# Altium integrated library Linear Technology Power Management Switching Regulator LT1074-LT8705.IntLib: 2252 symbols (part 55 of 148)
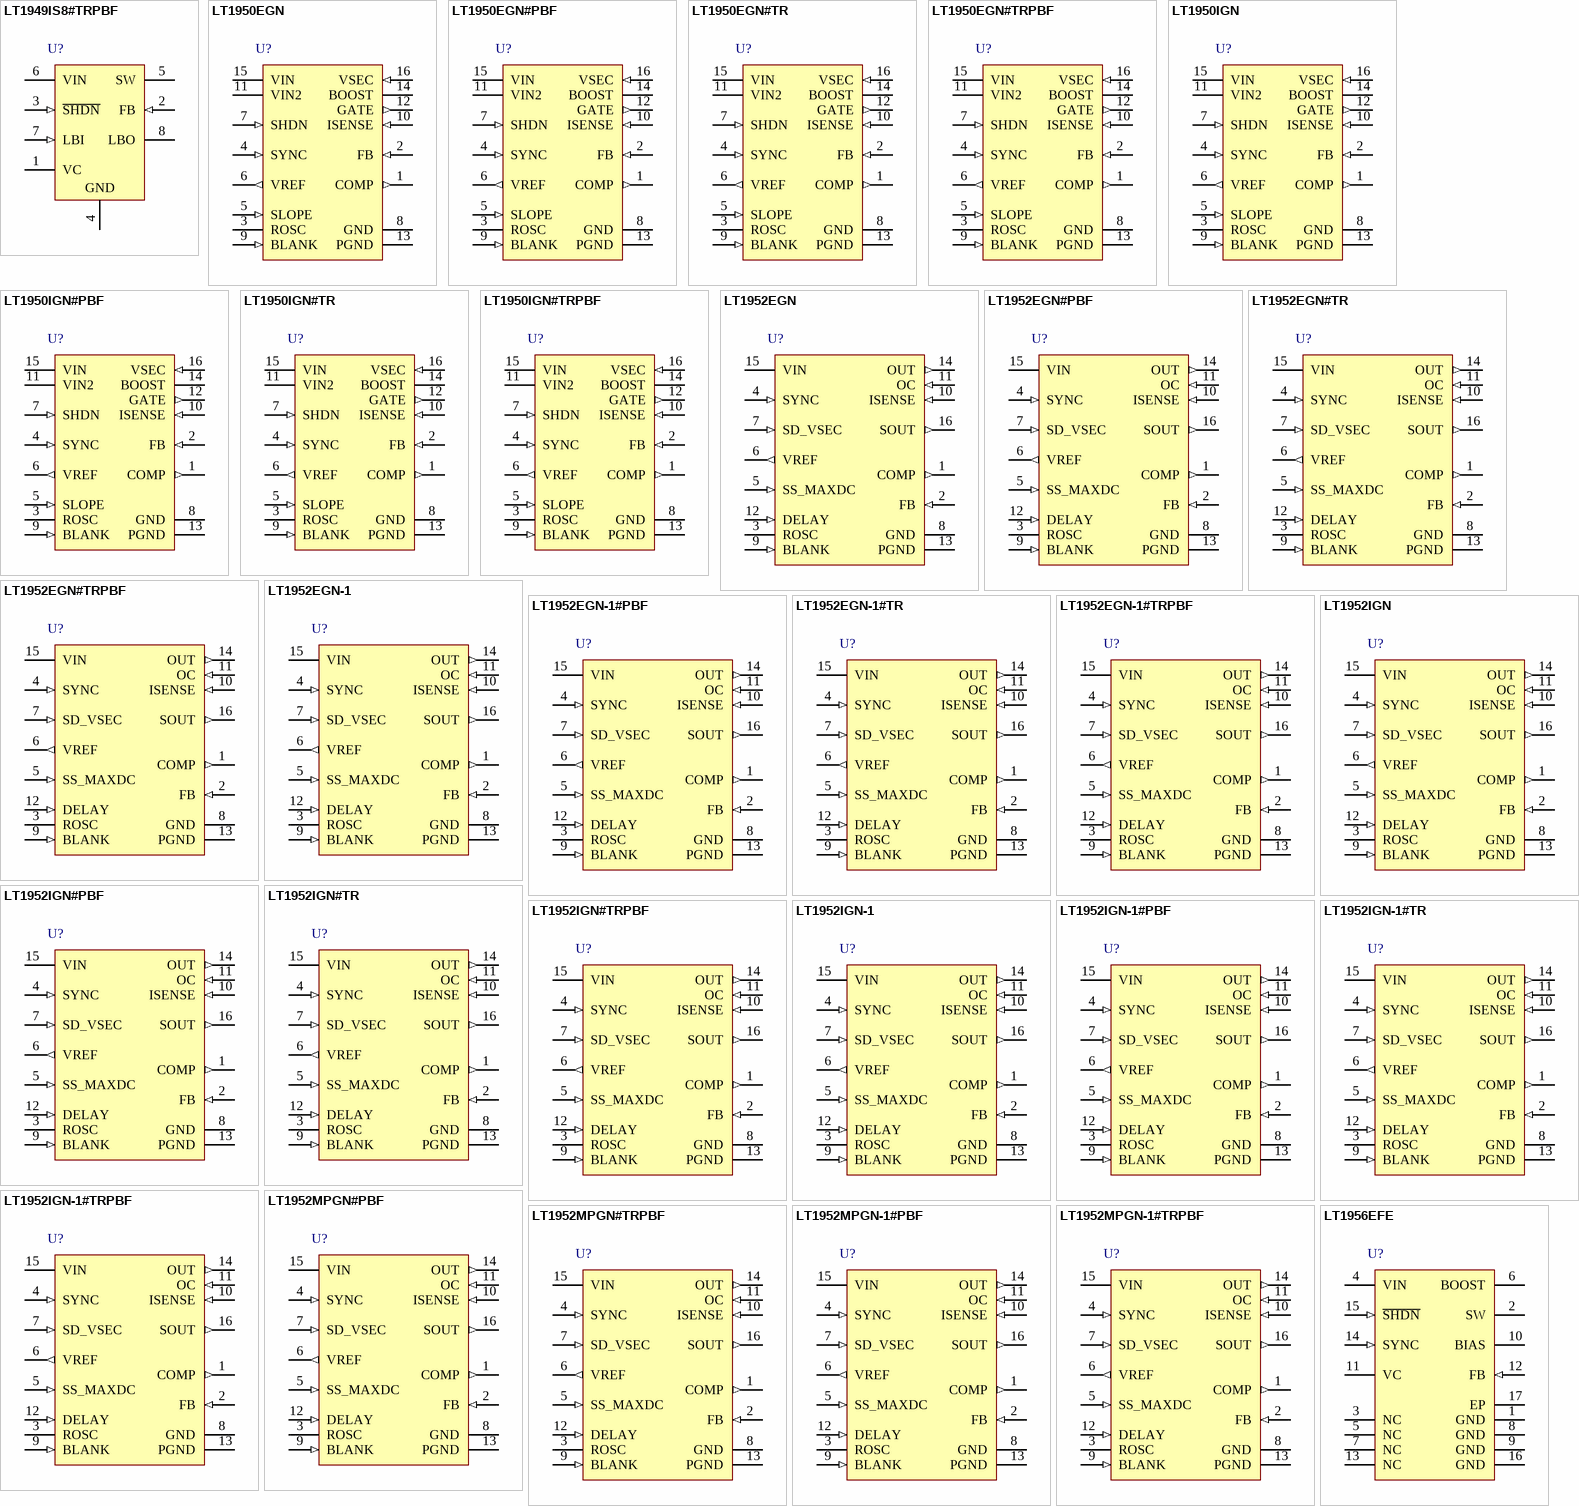
[diagram p125: symbols LT1949IS8#TRPBF to LT1956EFE]

## LT1950EGN#TRPBF
designator U?
Boost, Flyback and Forward Controller Transformer and MOSFET Protection, 16-pin SOP (GN-16), -40 to 125 degC, Pb-Free, Tape and Reel; Manufacturer: Linear Technology; PartNumber: LT1950EGN#TRPBF; Frequency Sync Range: 100kHz - 500kHz; Number of Outputs: 1; DatasheetVersion: Rev. A; PackageVersion: Rev. B, 03/2012; PackageReference: GN-16; PackageDescription: 16-Pin Plastic SSOP, Body 4.9 x 3.9 mm, Pitch 0.635 mm; Supplier 1: Digi-Key; Supplier Part Number 1: LT1950EGN#TRPBF-ND; Packing: Tape and Reel; RoHS: TRUE; Mounting Technology: Surface Mount; ComponentLink1Description: Manufacturer URL; ComponentLink1URL: http://www.linear.com/; ComponentLink2Description: Datasheet; ComponentLink2URL: http://cds.linear.com/docs/en/datasheet/1950fa.pdf; ComponentLink3Description: Package Specification; ComponentLink3URL: http://cds.linear.com/docs/en/packaging/05081641_B_GN16.pdf
footprint LT-GN-16_N (SOP, 16-Leads, Body 5x4mm, Pitch 0.635mm, IPC Medium Density)
footprint LT-GN-16_L (SOP, 16-Leads, Body 5x4mm, Pitch 0.635mm, IPC High Density)
footprint LT-GN-16_M (SOP, 16-Leads, Body 5x4mm, Pitch 0.635mm, IPC Low Density)
pins: 1 COMP (out) "The COMP pin is the output of the error amplifier. The error amplifier is a true op amp which allows the use of an RC network to be connected between the Comp and FB pins to compensate the feedback loop for optimum transient (See Datasheet)", 2 FB (in) "The FB pin is the inverting input to the error amplifier. The output voltage is set with a resistor divider. The error amplifier adjusts the peak switch current to maintain the FB pin voltage at the value of the internal (See Datasheet)", 3 ROSC "A resistor from the ROSC pin to ground programs the operating frequency of the LT1950. Operating frequency range is 100kHz to 500kHz. Nominal voltage on the ROSC pin is 1V.", 4 SYNC (in) "The SYNC pin is used to synchronize the internal oscillator to an external clock signal. The pin is directly logic compatible and can be driven with any signal with a duty cycle of 10% to 90%. If the SYNC function is not (See Datasheet)", 5 SLOPE (in) "The SLOPE pin is used to adjust the amount of slope compensation. Leaving the pin open circuit results in a default level of slope compensation. The amount of slope compensation can be adjusted above this default level by (See Datasheet)", 6 VREF (out) "The VREF pin is the output of an internal 2.5V reference. This pin is capable of sourcing up to 2.5mA for external use. It is recommended that the VREF pin is bypassed to ground with a 0.1uF ceramic capacitor.", 7 SHDN (in) "The SHDN pin is used to put the device into a low power shutdown state. In shutdown the VIN supply current drops to 5uA. The SHDN pin has an accurate threshold of 1.32V which can be used to program an undervoltage lockout (See Datasheet)", 8 GND (power) "The GND pin is the analog ground for the internal circuitry of the LT1950. Sensitive circuitry such as the feedback divider, frequency setting resistor, reference bypass capacitor should be tied directly to this pin. See the (See Datasheet)", 9 BLANK (in) "The BLANK pin is used to adjust the leading edge blanking period of the current sense amplifier during FET turn-on. Shorting the BLANK pin to ground provides a default blanking period of approximately 110ns. A resistor from (See Datasheet)", 10 ISENSE (in) "The ISENSE pin is the current sense input for the control loop. Connect this pin to the sense resistor in the source of the external power MOSFET.", 11 VIN2 (power) "The VIN2 pin is the supply pin for the MOSFET gate drive circuit. Power can be supplied to this pin by an external supply such as VIN, and must exceed 8V (the undervoltage lockout threshold for the gate driver supply). For (See Datasheet)", 12 GATE (out) "The GATE pin is the output of a high current gate drive circuit used to drive an external MOSFET. The output is actively clamped to a max voltage of 13V if VIN2 is supplied by a high voltage.", 13 PGND (power) "This is the ground connection for the high current gate driver stage. See the Applications Information section for recommendations on ground connections.", 14 BOOST "The BOOST pin is the NPN collector output of the internal boost converter which can be used to generate an 11V supply for the MOSFET gate driver circuit. The boost converter runs with a fixed off-time of 0.5us and a current (See Datasheet)", 15 VIN (power) "The VIN pin is the main supply pin for the LT1950. This pin must be closely bypassed to ground. If VIN2 is generated using the BOOST pin then the LT1950 will be fully functional, internal VREF will be active and the gate (See Datasheet)", 16 VSEC (in) "The VSEC pin is used to program the maximum duty cycle of the gate driver circuit. The maximum duty cycle will be equal to (105/VSEC)% for VSEC between 1.4V and 2.8V. This is a useful function to limit the flyback voltage in (See Datasheet)"

## LT1950IGN
designator U?
Boost, Flyback and Forward Controller Transformer and MOSFET Protection, 16-pin SOP (GN-16), -40 to 125 degC; Manufacturer: Linear Technology; PartNumber: LT1950IGN; Frequency Sync Range: 100kHz - 500kHz; Number of Outputs: 1; DatasheetVersion: Rev. A; PackageVersion: Rev. B, 03/2012; PackageReference: GN-16; PackageDescription: 16-Pin Plastic SSOP, Body 4.9 x 3.9 mm, Pitch 0.635 mm; Supplier 1: Digi-Key; Supplier Part Number 1: LT1950IGN-ND; Supplier 2: Newark; Supplier Part Number 2: 57M7305; RoHS: FALSE; Mounting Technology: Surface Mount; ComponentLink1Description: Manufacturer URL; ComponentLink1URL: http://www.linear.com/; ComponentLink2Description: Datasheet; ComponentLink2URL: http://cds.linear.com/docs/en/datasheet/1950fa.pdf; ComponentLink3Description: Package Specification; ComponentLink3URL: http://cds.linear.com/docs/en/packaging/05081641_B_GN16.pdf
footprint LT-GN-16_N (SOP, 16-Leads, Body 5x4mm, Pitch 0.635mm, IPC Medium Density)
footprint LT-GN-16_L (SOP, 16-Leads, Body 5x4mm, Pitch 0.635mm, IPC High Density)
footprint LT-GN-16_M (SOP, 16-Leads, Body 5x4mm, Pitch 0.635mm, IPC Low Density)
pins: 1 COMP (out) "The COMP pin is the output of the error amplifier. The error amplifier is a true op amp which allows the use of an RC network to be connected between the Comp and FB pins to compensate the feedback loop for optimum transient (See Datasheet)", 2 FB (in) "The FB pin is the inverting input to the error amplifier. The output voltage is set with a resistor divider. The error amplifier adjusts the peak switch current to maintain the FB pin voltage at the value of the internal (See Datasheet)", 3 ROSC "A resistor from the ROSC pin to ground programs the operating frequency of the LT1950. Operating frequency range is 100kHz to 500kHz. Nominal voltage on the ROSC pin is 1V.", 4 SYNC (in) "The SYNC pin is used to synchronize the internal oscillator to an external clock signal. The pin is directly logic compatible and can be driven with any signal with a duty cycle of 10% to 90%. If the SYNC function is not (See Datasheet)", 5 SLOPE (in) "The SLOPE pin is used to adjust the amount of slope compensation. Leaving the pin open circuit results in a default level of slope compensation. The amount of slope compensation can be adjusted above this default level by (See Datasheet)", 6 VREF (out) "The VREF pin is the output of an internal 2.5V reference. This pin is capable of sourcing up to 2.5mA for external use. It is recommended that the VREF pin is bypassed to ground with a 0.1uF ceramic capacitor.", 7 SHDN (in) "The SHDN pin is used to put the device into a low power shutdown state. In shutdown the VIN supply current drops to 5uA. The SHDN pin has an accurate threshold of 1.32V which can be used to program an undervoltage lockout (See Datasheet)", 8 GND (power) "The GND pin is the analog ground for the internal circuitry of the LT1950. Sensitive circuitry such as the feedback divider, frequency setting resistor, reference bypass capacitor should be tied directly to this pin. See the (See Datasheet)", 9 BLANK (in) "The BLANK pin is used to adjust the leading edge blanking period of the current sense amplifier during FET turn-on. Shorting the BLANK pin to ground provides a default blanking period of approximately 110ns. A resistor from (See Datasheet)", 10 ISENSE (in) "The ISENSE pin is the current sense input for the control loop. Connect this pin to the sense resistor in the source of the external power MOSFET.", 11 VIN2 (power) "The VIN2 pin is the supply pin for the MOSFET gate drive circuit. Power can be supplied to this pin by an external supply such as VIN, and must exceed 8V (the undervoltage lockout threshold for the gate driver supply). For (See Datasheet)", 12 GATE (out) "The GATE pin is the output of a high current gate drive circuit used to drive an external MOSFET. The output is actively clamped to a max voltage of 13V if VIN2 is supplied by a high voltage.", 13 PGND (power) "This is the ground connection for the high current gate driver stage. See the Applications Information section for recommendations on ground connections.", 14 BOOST "The BOOST pin is the NPN collector output of the internal boost converter which can be used to generate an 11V supply for the MOSFET gate driver circuit. The boost converter runs with a fixed off-time of 0.5us and a current (See Datasheet)", 15 VIN (power) "The VIN pin is the main supply pin for the LT1950. This pin must be closely bypassed to ground. If VIN2 is generated using the BOOST pin then the LT1950 will be fully functional, internal VREF will be active and the gate (See Datasheet)", 16 VSEC (in) "The VSEC pin is used to program the maximum duty cycle of the gate driver circuit. The maximum duty cycle will be equal to (105/VSEC)% for VSEC between 1.4V and 2.8V. This is a useful function to limit the flyback voltage in (See Datasheet)"

## LT1950IGN#PBF
designator U?
Boost, Flyback and Forward Controller Transformer and MOSFET Protection, 16-pin SOP (GN-16), -40 to 125 degC, Pb-Free; Manufacturer: Linear Technology; PartNumber: LT1950IGN#PBF; Frequency Sync Range: 100kHz - 500kHz; Number of Outputs: 1; DatasheetVersion: Rev. A; PackageVersion: Rev. B, 03/2012; PackageReference: GN-16; PackageDescription: 16-Pin Plastic SSOP, Body 4.9 x 3.9 mm, Pitch 0.635 mm; Supplier 1: Digi-Key; Supplier Part Number 1: LT1950IGN#PBF-ND; Supplier 2: Newark; Supplier Part Number 2: 57M7306; RoHS: TRUE; Mounting Technology: Surface Mount; ComponentLink1Description: Manufacturer URL; ComponentLink1URL: http://www.linear.com/; ComponentLink2Description: Datasheet; ComponentLink2URL: http://cds.linear.com/docs/en/datasheet/1950fa.pdf; ComponentLink3Description: Package Specification; ComponentLink3URL: http://cds.linear.com/docs/en/packaging/05081641_B_GN16.pdf
footprint LT-GN-16_N (SOP, 16-Leads, Body 5x4mm, Pitch 0.635mm, IPC Medium Density)
footprint LT-GN-16_L (SOP, 16-Leads, Body 5x4mm, Pitch 0.635mm, IPC High Density)
footprint LT-GN-16_M (SOP, 16-Leads, Body 5x4mm, Pitch 0.635mm, IPC Low Density)
pins: 1 COMP (out) "The COMP pin is the output of the error amplifier. The error amplifier is a true op amp which allows the use of an RC network to be connected between the Comp and FB pins to compensate the feedback loop for optimum transient (See Datasheet)", 2 FB (in) "The FB pin is the inverting input to the error amplifier. The output voltage is set with a resistor divider. The error amplifier adjusts the peak switch current to maintain the FB pin voltage at the value of the internal (See Datasheet)", 3 ROSC "A resistor from the ROSC pin to ground programs the operating frequency of the LT1950. Operating frequency range is 100kHz to 500kHz. Nominal voltage on the ROSC pin is 1V.", 4 SYNC (in) "The SYNC pin is used to synchronize the internal oscillator to an external clock signal. The pin is directly logic compatible and can be driven with any signal with a duty cycle of 10% to 90%. If the SYNC function is not (See Datasheet)", 5 SLOPE (in) "The SLOPE pin is used to adjust the amount of slope compensation. Leaving the pin open circuit results in a default level of slope compensation. The amount of slope compensation can be adjusted above this default level by (See Datasheet)", 6 VREF (out) "The VREF pin is the output of an internal 2.5V reference. This pin is capable of sourcing up to 2.5mA for external use. It is recommended that the VREF pin is bypassed to ground with a 0.1uF ceramic capacitor.", 7 SHDN (in) "The SHDN pin is used to put the device into a low power shutdown state. In shutdown the VIN supply current drops to 5uA. The SHDN pin has an accurate threshold of 1.32V which can be used to program an undervoltage lockout (See Datasheet)", 8 GND (power) "The GND pin is the analog ground for the internal circuitry of the LT1950. Sensitive circuitry such as the feedback divider, frequency setting resistor, reference bypass capacitor should be tied directly to this pin. See the (See Datasheet)", 9 BLANK (in) "The BLANK pin is used to adjust the leading edge blanking period of the current sense amplifier during FET turn-on. Shorting the BLANK pin to ground provides a default blanking period of approximately 110ns. A resistor from (See Datasheet)", 10 ISENSE (in) "The ISENSE pin is the current sense input for the control loop. Connect this pin to the sense resistor in the source of the external power MOSFET.", 11 VIN2 (power) "The VIN2 pin is the supply pin for the MOSFET gate drive circuit. Power can be supplied to this pin by an external supply such as VIN, and must exceed 8V (the undervoltage lockout threshold for the gate driver supply). For (See Datasheet)", 12 GATE (out) "The GATE pin is the output of a high current gate drive circuit used to drive an external MOSFET. The output is actively clamped to a max voltage of 13V if VIN2 is supplied by a high voltage.", 13 PGND (power) "This is the ground connection for the high current gate driver stage. See the Applications Information section for recommendations on ground connections.", 14 BOOST "The BOOST pin is the NPN collector output of the internal boost converter which can be used to generate an 11V supply for the MOSFET gate driver circuit. The boost converter runs with a fixed off-time of 0.5us and a current (See Datasheet)", 15 VIN (power) "The VIN pin is the main supply pin for the LT1950. This pin must be closely bypassed to ground. If VIN2 is generated using the BOOST pin then the LT1950 will be fully functional, internal VREF will be active and the gate (See Datasheet)", 16 VSEC (in) "The VSEC pin is used to program the maximum duty cycle of the gate driver circuit. The maximum duty cycle will be equal to (105/VSEC)% for VSEC between 1.4V and 2.8V. This is a useful function to limit the flyback voltage in (See Datasheet)"

## LT1950IGN#TR
designator U?
Boost, Flyback and Forward Controller Transformer and MOSFET Protection, 16-pin SOP (GN-16), -40 to 125 degC, Tape and Reel; Manufacturer: Linear Technology; PartNumber: LT1950IGN#TR; Frequency Sync Range: 100kHz - 500kHz; Number of Outputs: 1; DatasheetVersion: Rev. A; PackageVersion: Rev. B, 03/2012; PackageReference: GN-16; PackageDescription: 16-Pin Plastic SSOP, Body 4.9 x 3.9 mm, Pitch 0.635 mm; Supplier 1: Digi-Key; Supplier Part Number 1: LT1950IGN#TR-ND; Supplier 2: Newark; Supplier Part Number 2: 57M7307; Packing: Tape and Reel; RoHS: FALSE; Mounting Technology: Surface Mount; ComponentLink1Description: Manufacturer URL; ComponentLink1URL: http://www.linear.com/; ComponentLink2Description: Datasheet; ComponentLink2URL: http://cds.linear.com/docs/en/datasheet/1950fa.pdf; ComponentLink3Description: Package Specification; ComponentLink3URL: http://cds.linear.com/docs/en/packaging/05081641_B_GN16.pdf
footprint LT-GN-16_N (SOP, 16-Leads, Body 5x4mm, Pitch 0.635mm, IPC Medium Density)
footprint LT-GN-16_L (SOP, 16-Leads, Body 5x4mm, Pitch 0.635mm, IPC High Density)
footprint LT-GN-16_M (SOP, 16-Leads, Body 5x4mm, Pitch 0.635mm, IPC Low Density)
pins: 1 COMP (out) "The COMP pin is the output of the error amplifier. The error amplifier is a true op amp which allows the use of an RC network to be connected between the Comp and FB pins to compensate the feedback loop for optimum transient (See Datasheet)", 2 FB (in) "The FB pin is the inverting input to the error amplifier. The output voltage is set with a resistor divider. The error amplifier adjusts the peak switch current to maintain the FB pin voltage at the value of the internal (See Datasheet)", 3 ROSC "A resistor from the ROSC pin to ground programs the operating frequency of the LT1950. Operating frequency range is 100kHz to 500kHz. Nominal voltage on the ROSC pin is 1V.", 4 SYNC (in) "The SYNC pin is used to synchronize the internal oscillator to an external clock signal. The pin is directly logic compatible and can be driven with any signal with a duty cycle of 10% to 90%. If the SYNC function is not (See Datasheet)", 5 SLOPE (in) "The SLOPE pin is used to adjust the amount of slope compensation. Leaving the pin open circuit results in a default level of slope compensation. The amount of slope compensation can be adjusted above this default level by (See Datasheet)", 6 VREF (out) "The VREF pin is the output of an internal 2.5V reference. This pin is capable of sourcing up to 2.5mA for external use. It is recommended that the VREF pin is bypassed to ground with a 0.1uF ceramic capacitor.", 7 SHDN (in) "The SHDN pin is used to put the device into a low power shutdown state. In shutdown the VIN supply current drops to 5uA. The SHDN pin has an accurate threshold of 1.32V which can be used to program an undervoltage lockout (See Datasheet)", 8 GND (power) "The GND pin is the analog ground for the internal circuitry of the LT1950. Sensitive circuitry such as the feedback divider, frequency setting resistor, reference bypass capacitor should be tied directly to this pin. See the (See Datasheet)", 9 BLANK (in) "The BLANK pin is used to adjust the leading edge blanking period of the current sense amplifier during FET turn-on. Shorting the BLANK pin to ground provides a default blanking period of approximately 110ns. A resistor from (See Datasheet)", 10 ISENSE (in) "The ISENSE pin is the current sense input for the control loop. Connect this pin to the sense resistor in the source of the external power MOSFET.", 11 VIN2 (power) "The VIN2 pin is the supply pin for the MOSFET gate drive circuit. Power can be supplied to this pin by an external supply such as VIN, and must exceed 8V (the undervoltage lockout threshold for the gate driver supply). For (See Datasheet)", 12 GATE (out) "The GATE pin is the output of a high current gate drive circuit used to drive an external MOSFET. The output is actively clamped to a max voltage of 13V if VIN2 is supplied by a high voltage.", 13 PGND (power) "This is the ground connection for the high current gate driver stage. See the Applications Information section for recommendations on ground connections.", 14 BOOST "The BOOST pin is the NPN collector output of the internal boost converter which can be used to generate an 11V supply for the MOSFET gate driver circuit. The boost converter runs with a fixed off-time of 0.5us and a current (See Datasheet)", 15 VIN (power) "The VIN pin is the main supply pin for the LT1950. This pin must be closely bypassed to ground. If VIN2 is generated using the BOOST pin then the LT1950 will be fully functional, internal VREF will be active and the gate (See Datasheet)", 16 VSEC (in) "The VSEC pin is used to program the maximum duty cycle of the gate driver circuit. The maximum duty cycle will be equal to (105/VSEC)% for VSEC between 1.4V and 2.8V. This is a useful function to limit the flyback voltage in (See Datasheet)"

## LT1950IGN#TRPBF
designator U?
Boost, Flyback and Forward Controller Transformer and MOSFET Protection, 16-pin SOP (GN-16), -40 to 125 degC, Pb-Free, Tape and Reel; Manufacturer: Linear Technology; PartNumber: LT1950IGN#TRPBF; Frequency Sync Range: 100kHz - 500kHz; Number of Outputs: 1; DatasheetVersion: Rev. A; PackageVersion: Rev. B, 03/2012; PackageReference: GN-16; PackageDescription: 16-Pin Plastic SSOP, Body 4.9 x 3.9 mm, Pitch 0.635 mm; Supplier 1: Digi-Key; Supplier Part Number 1: LT1950IGN#TRPBF-ND; Supplier 2: Newark; Supplier Part Number 2: 57M7308; Packing: Tape and Reel; RoHS: TRUE; Mounting Technology: Surface Mount; ComponentLink1Description: Manufacturer URL; ComponentLink1URL: http://www.linear.com/; ComponentLink2Description: Datasheet; ComponentLink2URL: http://cds.linear.com/docs/en/datasheet/1950fa.pdf; ComponentLink3Description: Package Specification; ComponentLink3URL: http://cds.linear.com/docs/en/packaging/05081641_B_GN16.pdf
footprint LT-GN-16_N (SOP, 16-Leads, Body 5x4mm, Pitch 0.635mm, IPC Medium Density)
footprint LT-GN-16_L (SOP, 16-Leads, Body 5x4mm, Pitch 0.635mm, IPC High Density)
footprint LT-GN-16_M (SOP, 16-Leads, Body 5x4mm, Pitch 0.635mm, IPC Low Density)
pins: 1 COMP (out) "The COMP pin is the output of the error amplifier. The error amplifier is a true op amp which allows the use of an RC network to be connected between the Comp and FB pins to compensate the feedback loop for optimum transient (See Datasheet)", 2 FB (in) "The FB pin is the inverting input to the error amplifier. The output voltage is set with a resistor divider. The error amplifier adjusts the peak switch current to maintain the FB pin voltage at the value of the internal (See Datasheet)", 3 ROSC "A resistor from the ROSC pin to ground programs the operating frequency of the LT1950. Operating frequency range is 100kHz to 500kHz. Nominal voltage on the ROSC pin is 1V.", 4 SYNC (in) "The SYNC pin is used to synchronize the internal oscillator to an external clock signal. The pin is directly logic compatible and can be driven with any signal with a duty cycle of 10% to 90%. If the SYNC function is not (See Datasheet)", 5 SLOPE (in) "The SLOPE pin is used to adjust the amount of slope compensation. Leaving the pin open circuit results in a default level of slope compensation. The amount of slope compensation can be adjusted above this default level by (See Datasheet)", 6 VREF (out) "The VREF pin is the output of an internal 2.5V reference. This pin is capable of sourcing up to 2.5mA for external use. It is recommended that the VREF pin is bypassed to ground with a 0.1uF ceramic capacitor.", 7 SHDN (in) "The SHDN pin is used to put the device into a low power shutdown state. In shutdown the VIN supply current drops to 5uA. The SHDN pin has an accurate threshold of 1.32V which can be used to program an undervoltage lockout (See Datasheet)", 8 GND (power) "The GND pin is the analog ground for the internal circuitry of the LT1950. Sensitive circuitry such as the feedback divider, frequency setting resistor, reference bypass capacitor should be tied directly to this pin. See the (See Datasheet)", 9 BLANK (in) "The BLANK pin is used to adjust the leading edge blanking period of the current sense amplifier during FET turn-on. Shorting the BLANK pin to ground provides a default blanking period of approximately 110ns. A resistor from (See Datasheet)", 10 ISENSE (in) "The ISENSE pin is the current sense input for the control loop. Connect this pin to the sense resistor in the source of the external power MOSFET.", 11 VIN2 (power) "The VIN2 pin is the supply pin for the MOSFET gate drive circuit. Power can be supplied to this pin by an external supply such as VIN, and must exceed 8V (the undervoltage lockout threshold for the gate driver supply). For (See Datasheet)", 12 GATE (out) "The GATE pin is the output of a high current gate drive circuit used to drive an external MOSFET. The output is actively clamped to a max voltage of 13V if VIN2 is supplied by a high voltage.", 13 PGND (power) "This is the ground connection for the high current gate driver stage. See the Applications Information section for recommendations on ground connections.", 14 BOOST "The BOOST pin is the NPN collector output of the internal boost converter which can be used to generate an 11V supply for the MOSFET gate driver circuit. The boost converter runs with a fixed off-time of 0.5us and a current (See Datasheet)", 15 VIN (power) "The VIN pin is the main supply pin for the LT1950. This pin must be closely bypassed to ground. If VIN2 is generated using the BOOST pin then the LT1950 will be fully functional, internal VREF will be active and the gate (See Datasheet)", 16 VSEC (in) "The VSEC pin is used to program the maximum duty cycle of the gate driver circuit. The maximum duty cycle will be equal to (105/VSEC)% for VSEC between 1.4V and 2.8V. This is a useful function to limit the flyback voltage in (See Datasheet)"

## LT1952EGN
designator U?
Single Switch Synchronous Forward Controller, 16-pin SOP (GN-16), -40 to 125 degC; Manufacturer: Linear Technology; PartNumber: LT1952EGN; Frequency Sync Range: 100kHz - 500kHz; Number of Outputs: 1; DatasheetVersion: Rev. E; PackageVersion: Rev. B, 03/2012; PackageReference: GN-16; PackageDescription: 16-Pin Plastic SSOP, Body 4.9 x 3.9 mm, Pitch 0.635 mm; RoHS: FALSE; Mounting Technology: Surface Mount; ComponentLink1Description: Manufacturer URL; ComponentLink1URL: http://www.linear.com/; ComponentLink2Description: Datasheet; ComponentLink2URL: http://cds.linear.com/docs/en/datasheet/19521fe.pdf; ComponentLink3Description: Package Specification; ComponentLink3URL: http://cds.linear.com/docs/en/packaging/05081641_B_GN16.pdf
footprint LT-GN-16_N (SOP, 16-Leads, Body 5x4mm, Pitch 0.635mm, IPC Medium Density)
footprint LT-GN-16_L (SOP, 16-Leads, Body 5x4mm, Pitch 0.635mm, IPC High Density)
footprint LT-GN-16_M (SOP, 16-Leads, Body 5x4mm, Pitch 0.635mm, IPC Low Density)
pins: 1 COMP (out) "Output Pin of the Error Amplifier. The error amplifier is an op amp, allowing various compensation networks to be connected between the COMP pin and FB pin for optimum transient response. The voltage on this pin corresponds (See Datasheet)", 2 FB (in) "Monitors the output voltage via an external resistor divider and is compared with an internal 1.23V reference by the error amplifier. FB connected to VREF disables error amplifier output.", 3 ROSC "A resistor to ground programs the operating frequency of the IC between 100kHz and 500kHz. Nominal voltage on the ROSC pin is 1.0V.", 4 SYNC (in) "Used to Synchronize the Internal Oscillator to an External Signal. It is directly logic compatible and can be driven with any signal between 10% and 90% duty cycle. If unused, the pin can be left open or connected to ground.", 5 SS_MAXDC (in) "External resistor divider from VREF sets maximum duty cycle clamp (SS_MAXDC = 1.84V, SD_VSEC = 1.32V gives 72% duty cycle). Capacitor on SS_MAXDC pin in combination with external resistor divider sets soft-start timing.", 6 VREF (out) "The output of an internal 2.5V reference which supplies control circuitry in the IC. Capable of sourcing up to 2.5mA drive for external use. Bypass to ground with a 0.1uF ceramic capacitor.", 7 SD_VSEC (in) "The SD_VSEC pin, when pulled below its accurate 1.32V threshold, is used to turn off the IC and reduce current drain from VIN. The SD_VSEC pin is connected to system input voltage through a resistor divider to define (See Datasheet)", 8 GND (power) "Analog Ground.", 9 BLANK (in) "A resistor to ground adjusts the extended blanking period of the overcurrent and current sense amplifier outputs during FET turn on-to prevent false current limit trip. Increasing the resistor value increases the blanking (See Datasheet)", 10 ISENSE (in) "The Current Sense Input for the Control Loop. Connect this pin to the sense resistor in the source of the external power MOSFET. A resistor in series with the ISENSE pin programs slope compensation.", 11 OC (in) "An accurate 107mV threshold, independent of duty cycle, for overcurrent detection and trigger of soft-start. Connect this pin directly to the sense resistor in the source of the external power MOSFET.", 12 DELAY (in) "A resistor to ground adjusts the delay period between SOUT rising edge and OUT rising edge. Used to maximize efficiency in forward converter applications by adjusting the control timing of secondary side synchronous (See Datasheet)", 13 PGND (power) "Power Ground.", 14 OUT (out) "Drives the Gate of an N-channel MOSFET between 0V and VIN with a maximum limit of 13V on OUT pin set by an internal clamp. Active pull-off exists in shutdown (see electrical specification).", 15 VIN (power) "Input Supply for the Part. It must be closely decoupled to ground. An internal undervoltage lockout threshold exists for VIN at approximately 14.25V on and 8.75V off for the LT1952. The LT1952-1 has lower undervoltage (See Datasheet)", 16 SOUT (out) "Switched Output in Phase with OUT Pin. Provides sync signal for control of secondary side FETs in forward converter applications requiring highly efficient synchronous rectification. SOUT is actively clamped to 12V. Active (See Datasheet)"

## LT1952EGN#PBF
designator U?
Single Switch Synchronous Forward Controller, 16-pin SOP (GN-16), -40 to 125 degC, Pb-Free; Manufacturer: Linear Technology; PartNumber: LT1952EGN#PBF; Frequency Sync Range: 100kHz - 500kHz; Number of Outputs: 1; DatasheetVersion: Rev. E; PackageVersion: Rev. B, 03/2012; PackageReference: GN-16; PackageDescription: 16-Pin Plastic SSOP, Body 4.9 x 3.9 mm, Pitch 0.635 mm; Supplier 1: Digi-Key; Supplier Part Number 1: LT1952EGN#PBF-ND; RoHS: TRUE; Mounting Technology: Surface Mount; ComponentLink1Description: Manufacturer URL; ComponentLink1URL: http://www.linear.com/; ComponentLink2Description: Datasheet; ComponentLink2URL: http://cds.linear.com/docs/en/datasheet/19521fe.pdf; ComponentLink3Description: Package Specification; ComponentLink3URL: http://cds.linear.com/docs/en/packaging/05081641_B_GN16.pdf
footprint LT-GN-16_N (SOP, 16-Leads, Body 5x4mm, Pitch 0.635mm, IPC Medium Density)
footprint LT-GN-16_L (SOP, 16-Leads, Body 5x4mm, Pitch 0.635mm, IPC High Density)
footprint LT-GN-16_M (SOP, 16-Leads, Body 5x4mm, Pitch 0.635mm, IPC Low Density)
pins: 1 COMP (out) "Output Pin of the Error Amplifier. The error amplifier is an op amp, allowing various compensation networks to be connected between the COMP pin and FB pin for optimum transient response. The voltage on this pin corresponds (See Datasheet)", 2 FB (in) "Monitors the output voltage via an external resistor divider and is compared with an internal 1.23V reference by the error amplifier. FB connected to VREF disables error amplifier output.", 3 ROSC "A resistor to ground programs the operating frequency of the IC between 100kHz and 500kHz. Nominal voltage on the ROSC pin is 1.0V.", 4 SYNC (in) "Used to Synchronize the Internal Oscillator to an External Signal. It is directly logic compatible and can be driven with any signal between 10% and 90% duty cycle. If unused, the pin can be left open or connected to ground.", 5 SS_MAXDC (in) "External resistor divider from VREF sets maximum duty cycle clamp (SS_MAXDC = 1.84V, SD_VSEC = 1.32V gives 72% duty cycle). Capacitor on SS_MAXDC pin in combination with external resistor divider sets soft-start timing.", 6 VREF (out) "The output of an internal 2.5V reference which supplies control circuitry in the IC. Capable of sourcing up to 2.5mA drive for external use. Bypass to ground with a 0.1uF ceramic capacitor.", 7 SD_VSEC (in) "The SD_VSEC pin, when pulled below its accurate 1.32V threshold, is used to turn off the IC and reduce current drain from VIN. The SD_VSEC pin is connected to system input voltage through a resistor divider to define (See Datasheet)", 8 GND (power) "Analog Ground.", 9 BLANK (in) "A resistor to ground adjusts the extended blanking period of the overcurrent and current sense amplifier outputs during FET turn on-to prevent false current limit trip. Increasing the resistor value increases the blanking (See Datasheet)", 10 ISENSE (in) "The Current Sense Input for the Control Loop. Connect this pin to the sense resistor in the source of the external power MOSFET. A resistor in series with the ISENSE pin programs slope compensation.", 11 OC (in) "An accurate 107mV threshold, independent of duty cycle, for overcurrent detection and trigger of soft-start. Connect this pin directly to the sense resistor in the source of the external power MOSFET.", 12 DELAY (in) "A resistor to ground adjusts the delay period between SOUT rising edge and OUT rising edge. Used to maximize efficiency in forward converter applications by adjusting the control timing of secondary side synchronous (See Datasheet)", 13 PGND (power) "Power Ground.", 14 OUT (out) "Drives the Gate of an N-channel MOSFET between 0V and VIN with a maximum limit of 13V on OUT pin set by an internal clamp. Active pull-off exists in shutdown (see electrical specification).", 15 VIN (power) "Input Supply for the Part. It must be closely decoupled to ground. An internal undervoltage lockout threshold exists for VIN at approximately 14.25V on and 8.75V off for the LT1952. The LT1952-1 has lower undervoltage (See Datasheet)", 16 SOUT (out) "Switched Output in Phase with OUT Pin. Provides sync signal for control of secondary side FETs in forward converter applications requiring highly efficient synchronous rectification. SOUT is actively clamped to 12V. Active (See Datasheet)"

## LT1952EGN#TR
designator U?
Single Switch Synchronous Forward Controller, 16-pin SOP (GN-16), -40 to 125 degC, Tape and Reel; Manufacturer: Linear Technology; PartNumber: LT1952EGN#TR; Frequency Sync Range: 100kHz - 500kHz; Number of Outputs: 1; DatasheetVersion: Rev. E; PackageVersion: Rev. B, 03/2012; PackageReference: GN-16; PackageDescription: 16-Pin Plastic SSOP, Body 4.9 x 3.9 mm, Pitch 0.635 mm; Packing: Tape and Reel; RoHS: FALSE; Mounting Technology: Surface Mount; ComponentLink1Description: Manufacturer URL; ComponentLink1URL: http://www.linear.com/; ComponentLink2Description: Datasheet; ComponentLink2URL: http://cds.linear.com/docs/en/datasheet/19521fe.pdf; ComponentLink3Description: Package Specification; ComponentLink3URL: http://cds.linear.com/docs/en/packaging/05081641_B_GN16.pdf
footprint LT-GN-16_N (SOP, 16-Leads, Body 5x4mm, Pitch 0.635mm, IPC Medium Density)
footprint LT-GN-16_L (SOP, 16-Leads, Body 5x4mm, Pitch 0.635mm, IPC High Density)
footprint LT-GN-16_M (SOP, 16-Leads, Body 5x4mm, Pitch 0.635mm, IPC Low Density)
pins: 1 COMP (out) "Output Pin of the Error Amplifier. The error amplifier is an op amp, allowing various compensation networks to be connected between the COMP pin and FB pin for optimum transient response. The voltage on this pin corresponds (See Datasheet)", 2 FB (in) "Monitors the output voltage via an external resistor divider and is compared with an internal 1.23V reference by the error amplifier. FB connected to VREF disables error amplifier output.", 3 ROSC "A resistor to ground programs the operating frequency of the IC between 100kHz and 500kHz. Nominal voltage on the ROSC pin is 1.0V.", 4 SYNC (in) "Used to Synchronize the Internal Oscillator to an External Signal. It is directly logic compatible and can be driven with any signal between 10% and 90% duty cycle. If unused, the pin can be left open or connected to ground.", 5 SS_MAXDC (in) "External resistor divider from VREF sets maximum duty cycle clamp (SS_MAXDC = 1.84V, SD_VSEC = 1.32V gives 72% duty cycle). Capacitor on SS_MAXDC pin in combination with external resistor divider sets soft-start timing.", 6 VREF (out) "The output of an internal 2.5V reference which supplies control circuitry in the IC. Capable of sourcing up to 2.5mA drive for external use. Bypass to ground with a 0.1uF ceramic capacitor.", 7 SD_VSEC (in) "The SD_VSEC pin, when pulled below its accurate 1.32V threshold, is used to turn off the IC and reduce current drain from VIN. The SD_VSEC pin is connected to system input voltage through a resistor divider to define (See Datasheet)", 8 GND (power) "Analog Ground.", 9 BLANK (in) "A resistor to ground adjusts the extended blanking period of the overcurrent and current sense amplifier outputs during FET turn on-to prevent false current limit trip. Increasing the resistor value increases the blanking (See Datasheet)", 10 ISENSE (in) "The Current Sense Input for the Control Loop. Connect this pin to the sense resistor in the source of the external power MOSFET. A resistor in series with the ISENSE pin programs slope compensation.", 11 OC (in) "An accurate 107mV threshold, independent of duty cycle, for overcurrent detection and trigger of soft-start. Connect this pin directly to the sense resistor in the source of the external power MOSFET.", 12 DELAY (in) "A resistor to ground adjusts the delay period between SOUT rising edge and OUT rising edge. Used to maximize efficiency in forward converter applications by adjusting the control timing of secondary side synchronous (See Datasheet)", 13 PGND (power) "Power Ground.", 14 OUT (out) "Drives the Gate of an N-channel MOSFET between 0V and VIN with a maximum limit of 13V on OUT pin set by an internal clamp. Active pull-off exists in shutdown (see electrical specification).", 15 VIN (power) "Input Supply for the Part. It must be closely decoupled to ground. An internal undervoltage lockout threshold exists for VIN at approximately 14.25V on and 8.75V off for the LT1952. The LT1952-1 has lower undervoltage (See Datasheet)", 16 SOUT (out) "Switched Output in Phase with OUT Pin. Provides sync signal for control of secondary side FETs in forward converter applications requiring highly efficient synchronous rectification. SOUT is actively clamped to 12V. Active (See Datasheet)"

## LT1952EGN#TRPBF
designator U?
Single Switch Synchronous Forward Controller, 16-pin SOP (GN-16), -40 to 125 degC, Pb-Free, Tape and Reel; Manufacturer: Linear Technology; PartNumber: LT1952EGN#TRPBF; Frequency Sync Range: 100kHz - 500kHz; Number of Outputs: 1; DatasheetVersion: Rev. E; PackageVersion: Rev. B, 03/2012; PackageReference: GN-16; PackageDescription: 16-Pin Plastic SSOP, Body 4.9 x 3.9 mm, Pitch 0.635 mm; Supplier 1: Digi-Key; Supplier Part Number 1: LT1952EGN#TRPBF-ND; Packing: Tape and Reel; RoHS: TRUE; Mounting Technology: Surface Mount; ComponentLink1Description: Manufacturer URL; ComponentLink1URL: http://www.linear.com/; ComponentLink2Description: Datasheet; ComponentLink2URL: http://cds.linear.com/docs/en/datasheet/19521fe.pdf; ComponentLink3Description: Package Specification; ComponentLink3URL: http://cds.linear.com/docs/en/packaging/05081641_B_GN16.pdf
footprint LT-GN-16_N (SOP, 16-Leads, Body 5x4mm, Pitch 0.635mm, IPC Medium Density)
footprint LT-GN-16_L (SOP, 16-Leads, Body 5x4mm, Pitch 0.635mm, IPC High Density)
footprint LT-GN-16_M (SOP, 16-Leads, Body 5x4mm, Pitch 0.635mm, IPC Low Density)
pins: 1 COMP (out) "Output Pin of the Error Amplifier. The error amplifier is an op amp, allowing various compensation networks to be connected between the COMP pin and FB pin for optimum transient response. The voltage on this pin corresponds (See Datasheet)", 2 FB (in) "Monitors the output voltage via an external resistor divider and is compared with an internal 1.23V reference by the error amplifier. FB connected to VREF disables error amplifier output.", 3 ROSC "A resistor to ground programs the operating frequency of the IC between 100kHz and 500kHz. Nominal voltage on the ROSC pin is 1.0V.", 4 SYNC (in) "Used to Synchronize the Internal Oscillator to an External Signal. It is directly logic compatible and can be driven with any signal between 10% and 90% duty cycle. If unused, the pin can be left open or connected to ground.", 5 SS_MAXDC (in) "External resistor divider from VREF sets maximum duty cycle clamp (SS_MAXDC = 1.84V, SD_VSEC = 1.32V gives 72% duty cycle). Capacitor on SS_MAXDC pin in combination with external resistor divider sets soft-start timing.", 6 VREF (out) "The output of an internal 2.5V reference which supplies control circuitry in the IC. Capable of sourcing up to 2.5mA drive for external use. Bypass to ground with a 0.1uF ceramic capacitor.", 7 SD_VSEC (in) "The SD_VSEC pin, when pulled below its accurate 1.32V threshold, is used to turn off the IC and reduce current drain from VIN. The SD_VSEC pin is connected to system input voltage through a resistor divider to define (See Datasheet)", 8 GND (power) "Analog Ground.", 9 BLANK (in) "A resistor to ground adjusts the extended blanking period of the overcurrent and current sense amplifier outputs during FET turn on-to prevent false current limit trip. Increasing the resistor value increases the blanking (See Datasheet)", 10 ISENSE (in) "The Current Sense Input for the Control Loop. Connect this pin to the sense resistor in the source of the external power MOSFET. A resistor in series with the ISENSE pin programs slope compensation.", 11 OC (in) "An accurate 107mV threshold, independent of duty cycle, for overcurrent detection and trigger of soft-start. Connect this pin directly to the sense resistor in the source of the external power MOSFET.", 12 DELAY (in) "A resistor to ground adjusts the delay period between SOUT rising edge and OUT rising edge. Used to maximize efficiency in forward converter applications by adjusting the control timing of secondary side synchronous (See Datasheet)", 13 PGND (power) "Power Ground.", 14 OUT (out) "Drives the Gate of an N-channel MOSFET between 0V and VIN with a maximum limit of 13V on OUT pin set by an internal clamp. Active pull-off exists in shutdown (see electrical specification).", 15 VIN (power) "Input Supply for the Part. It must be closely decoupled to ground. An internal undervoltage lockout threshold exists for VIN at approximately 14.25V on and 8.75V off for the LT1952. The LT1952-1 has lower undervoltage (See Datasheet)", 16 SOUT (out) "Switched Output in Phase with OUT Pin. Provides sync signal for control of secondary side FETs in forward converter applications requiring highly efficient synchronous rectification. SOUT is actively clamped to 12V. Active (See Datasheet)"

## LT1952EGN-1
designator U?
Single Switch Synchronous Forward Controller, 16-pin SOP (GN-16), -40 to 125 degC; Manufacturer: Linear Technology; PartNumber: LT1952EGN-1; Frequency Sync Range: 100kHz - 500kHz; Number of Outputs: 1; DatasheetVersion: Rev. E; PackageVersion: Rev. B, 03/2012; PackageReference: GN-16; PackageDescription: 16-Pin Plastic SSOP, Body 4.9 x 3.9 mm, Pitch 0.635 mm; RoHS: FALSE; Mounting Technology: Surface Mount; ComponentLink1Description: Manufacturer URL; ComponentLink1URL: http://www.linear.com/; ComponentLink2Description: Datasheet; ComponentLink2URL: http://cds.linear.com/docs/en/datasheet/19521fe.pdf; ComponentLink3Description: Package Specification; ComponentLink3URL: http://cds.linear.com/docs/en/packaging/05081641_B_GN16.pdf
footprint LT-GN-16_N (SOP, 16-Leads, Body 5x4mm, Pitch 0.635mm, IPC Medium Density)
footprint LT-GN-16_L (SOP, 16-Leads, Body 5x4mm, Pitch 0.635mm, IPC High Density)
footprint LT-GN-16_M (SOP, 16-Leads, Body 5x4mm, Pitch 0.635mm, IPC Low Density)
pins: 1 COMP (out) "Output Pin of the Error Amplifier. The error amplifier is an op amp, allowing various compensation networks to be connected between the COMP pin and FB pin for optimum transient response. The voltage on this pin corresponds (See Datasheet)", 2 FB (in) "Monitors the output voltage via an external resistor divider and is compared with an internal 1.23V reference by the error amplifier. FB connected to VREF disables error amplifier output.", 3 ROSC "A resistor to ground programs the operating frequency of the IC between 100kHz and 500kHz. Nominal voltage on the ROSC pin is 1.0V.", 4 SYNC (in) "Used to Synchronize the Internal Oscillator to an External Signal. It is directly logic compatible and can be driven with any signal between 10% and 90% duty cycle. If unused, the pin can be left open or connected to ground.", 5 SS_MAXDC (in) "External resistor divider from VREF sets maximum duty cycle clamp (SS_MAXDC = 1.84V, SD_VSEC = 1.32V gives 72% duty cycle). Capacitor on SS_MAXDC pin in combination with external resistor divider sets soft-start timing.", 6 VREF (out) "The output of an internal 2.5V reference which supplies control circuitry in the IC. Capable of sourcing up to 2.5mA drive for external use. Bypass to ground with a 0.1uF ceramic capacitor.", 7 SD_VSEC (in) "The SD_VSEC pin, when pulled below its accurate 1.32V threshold, is used to turn off the IC and reduce current drain from VIN. The SD_VSEC pin is connected to system input voltage through a resistor divider to define (See Datasheet)", 8 GND (power) "Analog Ground.", 9 BLANK (in) "A resistor to ground adjusts the extended blanking period of the overcurrent and current sense amplifier outputs during FET turn on-to prevent false current limit trip. Increasing the resistor value increases the blanking (See Datasheet)", 10 ISENSE (in) "The Current Sense Input for the Control Loop. Connect this pin to the sense resistor in the source of the external power MOSFET. A resistor in series with the ISENSE pin programs slope compensation.", 11 OC (in) "An accurate 107mV threshold, independent of duty cycle, for overcurrent detection and trigger of soft-start. Connect this pin directly to the sense resistor in the source of the external power MOSFET.", 12 DELAY (in) "A resistor to ground adjusts the delay period between SOUT rising edge and OUT rising edge. Used to maximize efficiency in forward converter applications by adjusting the control timing of secondary side synchronous (See Datasheet)", 13 PGND (power) "Power Ground.", 14 OUT (out) "Drives the Gate of an N-channel MOSFET between 0V and VIN with a maximum limit of 13V on OUT pin set by an internal clamp. Active pull-off exists in shutdown (see electrical specification).", 15 VIN (power) "Input Supply for the Part. It must be closely decoupled to ground. An internal undervoltage lockout threshold exists for VIN at approximately 14.25V on and 8.75V off for the LT1952. The LT1952-1 has lower undervoltage (See Datasheet)", 16 SOUT (out) "Switched Output in Phase with OUT Pin. Provides sync signal for control of secondary side FETs in forward converter applications requiring highly efficient synchronous rectification. SOUT is actively clamped to 12V. Active (See Datasheet)"